# Altium footprint library libreriaPcb.PcbLib: 683 footprints (part 9 of 44)
Each footprint in its own frame and in the unit in brackets; x right, y up, seen from the top. Pads: shape width x height; smd on the part's side, far side on the other; paste and mask are expansions set on the pad; w line width, h text height; cw(c..) or ccw(c..) is an arc to the next point about the centre after c.
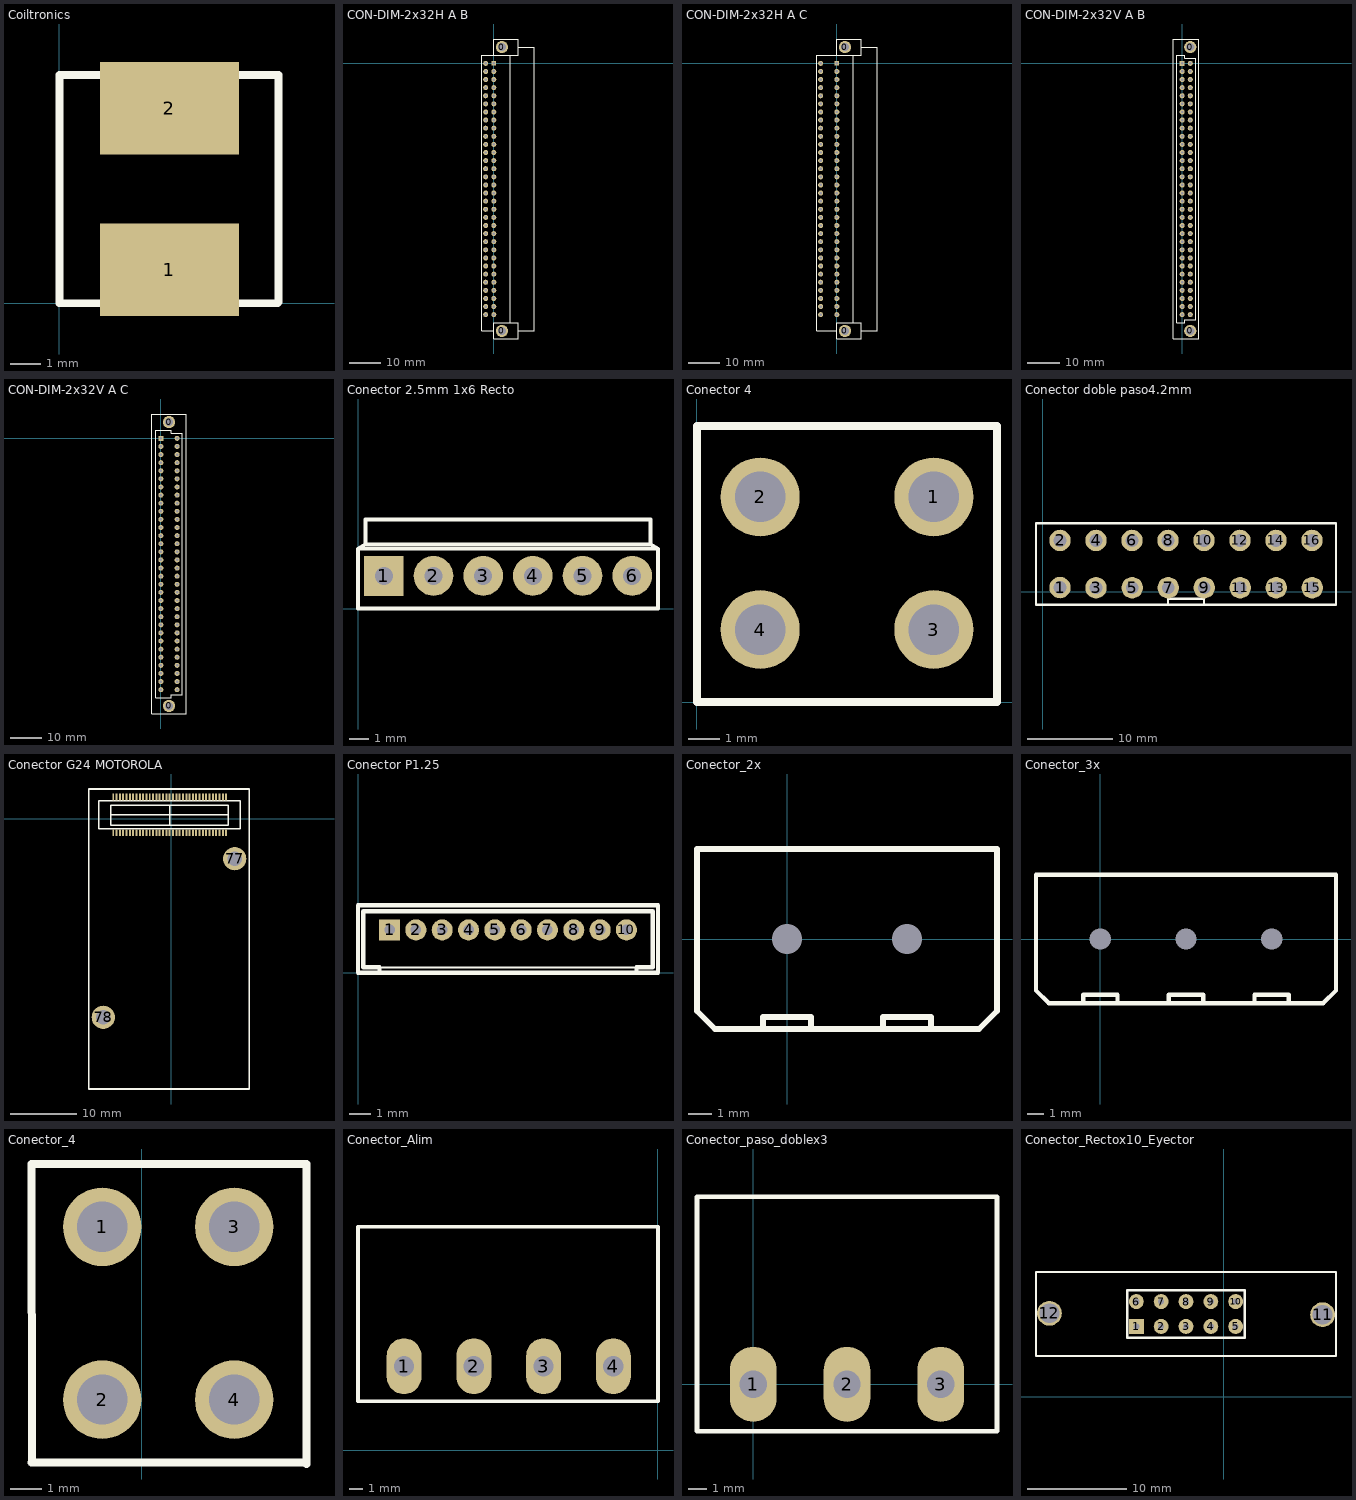
[diagram p8: the footprints below, top view; thin cyan lines are the x and y axes]

## Coiltronics [mm] "BobinaSMD"
pads (2):
  rect 4.5x3 smd: 1(3.57,1.09) 2(3.57,6.32)
Top Overlay:
  lines w0.254: 7.11,2.09 7.11,7.33 ; 7.11,2.16 7.11,0.04 7.07,0 0,0 0,4.82 0,7.4 7.11,7.4

## CON-DIM-2x32H A B [mil]
pads (66):
  round 150 hole 100: 0(100,-3300) 0(100,200)
  rect 58x58 hole 30: 1A(0,0)
  round 62 hole 30: 1B(-100,0) 2A(0,-100) 2B(-100,-100) 3A(0,-200) 3B(-100,-200) 4A(0,-300) 4B(-100,-300) 5A(0,-400) 5B(-100,-400) 6A(0,-500) 6B(-100,-500) 7A(0,-600) 7B(-100,-600) 8A(0,-700) 8B(-100,-700) 9A(0,-800) 9B(-100,-800) 10A(0,-900) 10B(-100,-900) 11A(0,-1000) 11B(-100,-1000) 12A(0,-1100) 12B(-100,-1100) 13A(0,-1200) 13B(-100,-1200) 14A(0,-1300) 14B(-100,-1300) 15A(0,-1400) 15B(-100,-1400) 16A(0,-1500) 16B(-100,-1500) 17A(0,-1600) 17B(-100,-1600) 18A(0,-1700) 18B(-100,-1700) 19A(0,-1800) 19B(-100,-1800) 20A(0,-1900) 20B(-100,-1900) 21A(0,-2000) 21B(-100,-2000) 22A(0,-2100) 22B(-100,-2100) 23A(0,-2200) 23B(-100,-2200) 24A(0,-2300) 24B(-100,-2300) 25A(0,-2400) 25B(-100,-2400) 26A(0,-2500) 26B(-100,-2500) 27A(0,-2600) 27B(-100,-2600) 28A(0,-2700) 28B(-100,-2700) 29A(0,-2800) 29B(-100,-2800) 30A(0,-2900) 30B(-100,-2900) 31A(0,-3000) 31B(-100,-3000) 32A(0,-3100) 32B(-100,-3100)
Top Overlay:
  lines w10: 0,-3300 -150,-3300 -150,100 0,100 ; 200,-3200 200,100 ; 0,100 0,300 300,300 300,200 ; 0,100 300,100 300,200 ; 300,-3300 300,-3200 0,-3200 0,-3400 300,-3400 300,-3300 ; 300,-3300 500,-3300 500,200 300,200

## CON-DIM-2x32H A C [mil]
pads (66):
  round 150 hole 100: 0(100,-3300) 0(100,200)
  rect 58x58 hole 30: 1A(0,0)
  round 62 hole 30: 1C(-200,0) 2A(0,-100) 2C(-200,-100) 3A(0,-200) 3C(-200,-200) 4A(0,-300) 4C(-200,-300) 5A(0,-400) 5C(-200,-400) 6A(0,-500) 6C(-200,-500) 7A(0,-600) 7C(-200,-600) 8A(0,-700) 8C(-200,-700) 9A(0,-800) 9C(-200,-800) 10A(0,-900) 10C(-200,-900) 11A(0,-1000) 11C(-200,-1000) 12A(0,-1100) 12C(-200,-1100) 13A(0,-1200) 13C(-200,-1200) 14A(0,-1300) 14C(-200,-1300) 15A(0,-1400) 15C(-200,-1400) 16A(0,-1500) 16C(-200,-1500) 17A(0,-1600) 17C(-200,-1600) 18A(0,-1700) 18C(-200,-1700) 19A(0,-1800) 19C(-200,-1800) 20A(0,-1900) 20C(-200,-1900) 21A(0,-2000) 21C(-200,-2000) 22A(0,-2100) 22C(-200,-2100) 23A(0,-2200) 23C(-200,-2200) 24A(0,-2300) 24C(-200,-2300) 25A(0,-2400) 25C(-200,-2400) 26A(0,-2500) 26C(-200,-2500) 27A(0,-2600) 27C(-200,-2600) 28A(0,-2700) 28C(-200,-2700) 29A(0,-2800) 29C(-200,-2800) 30A(0,-2900) 30C(-200,-2900) 31A(0,-3000) 31C(-200,-3000) 32A(0,-3100) 32C(-200,-3100)
Top Overlay:
  lines w10: 0,-3300 -250,-3300 -250,100 0,100 ; 200,-3200 200,100 ; 0,100 0,300 300,300 300,200 ; 0,100 300,100 300,200 ; 300,-3300 300,-3200 0,-3200 0,-3400 300,-3400 300,-3300 ; 300,-3300 500,-3300 500,200 300,200

## CON-DIM-2x32V A B [mil]
pads (66):
  round 150 hole 100: 0(100,-3300) 0(100,200)
  rect 62x62 hole 30: 1A(0,0)
  round 62 hole 30: 1B(100,0) 2A(0,-100) 2B(100,-100) 3A(0,-200) 3B(100,-200) 4A(0,-300) 4B(100,-300) 5A(0,-400) 5B(100,-400) 6A(0,-500) 6B(100,-500) 7A(0,-600) 7B(100,-600) 8A(0,-700) 8B(100,-700) 9A(0,-800) 9B(100,-800) 10A(0,-900) 10B(100,-900) 11A(0,-1000) 11B(100,-1000) 12A(0,-1100) 12B(100,-1100) 13A(0,-1200) 13B(100,-1200) 14A(0,-1300) 14B(100,-1300) 15A(0,-1400) 15B(100,-1400) 16A(0,-1500) 16B(100,-1500) 17A(0,-1600) 17B(100,-1600) 18A(0,-1700) 18B(100,-1700) 19A(0,-1800) 19B(100,-1800) 20A(0,-1900) 20B(100,-1900) 21A(0,-2000) 21B(100,-2000) 22A(0,-2100) 22B(100,-2100) 23A(0,-2200) 23B(100,-2200) 24A(0,-2300) 24B(100,-2300) 25A(0,-2400) 25B(100,-2400) 26A(0,-2500) 26B(100,-2500) 27A(0,-2600) 27B(100,-2600) 28A(0,-2700) 28B(100,-2700) 29A(0,-2800) 29B(100,-2800) 30A(0,-2900) 30B(100,-2900) 31A(0,-3000) 31B(100,-3000) 32A(0,-3100) 32B(100,-3100)
Top Overlay:
  lines w10: 170,64.65 170,-3165.35 35,-3165.35 35,-3200.35 -65,-3200 -65,100 35,100.35 35,65.35 170,65.35 ; -110,-3400 -110,300 204.96,299.76 204.96,134.76 204.96,-3165.24 204.96,-3400 -110,-3400

## CON-DIM-2x32V A C [mil]
pads (66):
  round 150 hole 100: 0(100,-3300) 0(100,200)
  rect 62x62 hole 30: 1A(0,0)
  round 62 hole 30: 1C(200,0) 2A(0,-100) 2C(200,-100) 3A(0,-200) 3C(200,-200) 4A(0,-300) 4C(200,-300) 5A(0,-400) 5C(200,-400) 6A(0,-500) 6C(200,-500) 7A(0,-600) 7C(200,-600) 8A(0,-700) 8C(200,-700) 9A(0,-800) 9C(200,-800) 10A(0,-900) 10C(200,-900) 11A(0,-1000) 11C(200,-1000) 12A(0,-1100) 12C(200,-1100) 13A(0,-1200) 13C(200,-1200) 14A(0,-1300) 14C(200,-1300) 15A(0,-1400) 15C(200,-1400) 16A(0,-1500) 16C(200,-1500) 17A(0,-1600) 17C(200,-1600) 18A(0,-1700) 18C(200,-1700) 19A(0,-1800) 19C(200,-1800) 20A(0,-1900) 20C(200,-1900) 21A(0,-2000) 21C(200,-2000) 22A(0,-2100) 22C(200,-2100) 23A(0,-2200) 23C(200,-2200) 24A(0,-2300) 24C(200,-2300) 25A(0,-2400) 25C(200,-2400) 26A(0,-2500) 26C(200,-2500) 27A(0,-2600) 27C(200,-2600) 28A(0,-2700) 28C(200,-2700) 29A(0,-2800) 29C(200,-2800) 30A(0,-2900) 30C(200,-2900) 31A(0,-3000) 31C(200,-3000) 32A(0,-3100) 32C(200,-3100)
Top Overlay:
  lines w10: -110,-3400 310,-3400 ; -110,-3400 -110,300 ; -110,-3400 310,-3400 ; -110,300 310,300 ; -110,300 310,300 ; 310,-3400 310,300 ; 310,-3400 310,300 ; 310,-3400 310,-3025 310,300 ; -65,-3200 -65,100 130,100 130,65 265,65 265,-3165 130,-3165 130,-3200 -65,-3200

## Conector 2.5mm 1x6 Recto [mm]
pads (6):
  rect 2x2 hole 0.9: 1(1.3,1.651)
  round 2 hole 0.9: 2(3.8,1.651) 3(6.3,1.651) 4(8.8,1.651) 5(11.3,1.651) 6(13.8,1.651)
Top Overlay:
  lines w0.2: 0,3.017 15.1,3.017 ; 0,3.017 0,0 15.1,0 15.1,3.017 ; 0,3.017 0.381,3.24 ; 0.381,3.24 14.719,3.24 ; 0.381,3.24 0.381,4.5 14.719,4.5 14.719,3.24 ; 14.719,3.24 15.1,3.017

## Conector 4 [mm]
pads (4):
  round 2.5 hole 1.6: 1(7.508,6.508) 2(2.008,6.508) 3(7.508,2.308) 4(2.008,2.308)
Top Overlay:
  lines w0.254: 0.008,0.008 7.508,0.008 9.508,0.008 9.508,8.758 0.008,8.758 0.008,0.008
3D body: height 1, standoff 0, extent 0,0 9.474,8.763
3D body: height 12, standoff 1, extent 0,0 1.016,8.738
3D body: height 12, standoff 1, extent 0,0 9.525,1.016
3D body: height 12, standoff 1, extent 8.509,0 9.525,8.712
3D body: height 12, standoff 1, extent 0.025,7.696 9.525,8.712
3D body: height 12, standoff 1, extent 4.597,0 5.131,8.738
3D body: height 12, standoff 1, extent 0,4.166 9.5,4.648
3D body: height 12, standoff 9, extent -0.851,3.099 0,5.741

## Conector doble paso4.2mm [mm]
pads (16):
  round 2.5 hole 1.5: 1(2,0.5) 2(2,6) 3(6.2,0.476) 4(6.2,6) 5(10.424,0.484) 6(10.4,6) 7(14.624,0.476) 8(14.6,6) 9(18.824,0.484) 10(18.8,6) 11(23.024,0.484) 12(23,6) 13(27.224,0.484) 14(27.2,6) 15(31.424,0.476) 16(31.4,6)
Top Overlay:
  lines w0.254: 14.6,-1.5 14.6,-0.8 18.8,-0.8 18.8,-1.5 ; -0.8,-1.5 -0.8,8 34.2,8 34.2,6 34.2,-1.5 -0.8,-1.5

## Conector G24 MOTOROLA [mm]
pads (72):
  rect 0.3x1 smd: 1(8.25,3.25) 2(8.25,-2.15) 3(7.75,3.25) 4(7.75,-2.15) 5(7.25,3.25) 6(7.25,-2.15) 7(6.75,3.25) 8(6.75,-2.15) 9(6.25,3.25) 10(6.25,-2.15) 11(5.75,3.25) 12(5.75,-2.15) 13(5.25,3.25) 14(5.25,-2.15) 15(4.75,3.25) 16(4.75,-2.15) 17(4.25,3.25) 18(4.25,-2.15) 19(3.75,3.25) 20(3.75,-2.15) 21(3.25,3.25) 22(3.25,-2.15) 23(2.75,3.25) 24(2.75,-2.15) 25(2.25,3.25) 26(2.25,-2.15) 27(1.75,3.25) 28(1.75,-2.15) 29(1.25,3.25) 30(1.25,-2.15) 31(0.75,3.25) 32(0.75,-2.15) 33(0.25,3.25) 34(0.25,-2.15) 35(-0.25,3.25) 36(-0.25,-2.15) 37(-0.75,3.25) 38(-0.75,-2.15) 39(-1.25,3.25) 40(-1.25,-2.15) 41(-1.75,3.25) 42(-1.75,-2.15) 43(-2.25,3.25) 44(-2.25,-2.15) 45(-2.75,3.25) 46(-2.75,-2.15) 47(-3.25,3.25) 48(-3.25,-2.15) 49(-3.75,3.25) 50(-3.75,-2.15) 51(-4.25,3.25) 52(-4.25,-2.15) 53(-4.75,3.25) 54(-4.75,-2.15) 55(-5.25,3.25) 56(-5.25,-2.15) 57(-5.75,3.25) 58(-5.75,-2.15) 59(-6.25,3.25) 60(-6.25,-2.15) 61(-6.75,3.25) 62(-6.75,-2.15) 63(-7.25,3.25) 64(-7.25,-2.15) 65(-7.75,3.25) 66(-7.75,-2.15) 67(-8.25,3.25) 68(-8.25,-2.15) 69(-8.75,3.25) 70(-8.75,-2.15)
  round 3.5 hole 2.2: 77(9.55,-6.05) 78(-10.25,-29.95)
Top Overlay:
  lines w0.2: -9.1,0.55 8.6,0.55 ; -0.25,-1 -0.25,2 ; -10.9,-1.55 -10.9,2.65 -9.1,2.65 8.6,2.65 10.4,2.65 10.4,-1.55 8.6,-1.55 -9.1,-1.55 -10.9,-1.55 ; -9.1,-1 8.6,-1 8.6,2 -9.1,2 -9.1,0 -9.1,-1
  lines w0.254: -10.25,-29.95 -10.2,-30 ; -12.45,-40.75 11.75,-40.75 11.75,4.45 -2.05,4.45 -10.25,4.45 -12.45,4.45 -12.45,-6.05 -12.45,-40.75
3D body: height 2, standoff 1.6, extent -12.449,-40.749 11.749,4.449

## Conector P1.25 [mm] "1.25 Wire to Board Conn. Recto"
pads (10):
  rect 1x1 hole 0.5: 1(1.5,2.032)
  round 1 hole 0.5: 2(2.75,2.032) 3(4,2.032) 4(5.25,2.032) 5(6.5,2.032) 6(7.75,2.032) 7(9,2.032) 8(10.25,2.032) 9(11.5,2.032) 10(12.75,2.032)
Top Overlay:
  lines w0.1: 1.016,0.254 13.234,0.254
  lines w0.2: 1.016,0 1.016,0.254 0.254,0.254 0.254,2.921 13.996,2.921 13.996,0.254 13.234,0.254 13.234,0 ; 0,0 0,3.2 14.25,3.2 14.25,0 0,0

## Conector_2x [mm]
pads (2):
  oct 0x0 / inner round 0 / far side oct 2.54x2.54 hole 1.27: 1(0,0)
  round 0 / inner round 0 / far side round 2.54 hole 1.27: 2(5.08,0)
Top Overlay:
  lines w0.254: -1.016,-3.81 -1.016,-3.302 1.016,-3.302 1.016,-3.81 ; 4.064,-3.81 4.064,-3.302 6.096,-3.302 6.096,-3.81 ; -3.81,-3.048 -3.81,3.81 8.89,3.81 8.89,-3.048 8.128,-3.81 -3.048,-3.81 -3.81,-3.048

## Conector_3x [mm]
pads (3):
  oct 0x0 / inner round 0 / far side oct 2.794x2.794 hole 1.27: 1(0,0)
  round 0 / inner round 0 / far side round 2.794 hole 1.27: 2(10.16,0) C(5.08,0)
Top Overlay:
  lines w0.254: -1.016,-3.81 -1.016,-3.302 1.016,-3.302 1.016,-3.81 ; 4.064,-3.81 4.064,-3.302 6.096,-3.302 6.096,-3.81 ; 9.144,-3.81 9.144,-3.302 11.176,-3.302 11.176,-3.81 ; -3.81,-3.048 -3.048,-3.81 13.208,-3.81 13.97,-3.048 13.97,3.81 -3.81,3.81 -3.81,-3.048

## Conector_4 [mm]
pads (4):
  round 2.5 hole 1.6: 1(-1.25,17.03) 2(-1.25,11.53) 3(2.95,17.03) 4(2.95,11.53)
Top Overlay:
  lines w0.254: -3.5,9.53 5.2,9.53 5.25,9.48 ; -3.49,9.52 -3.5,19.03 5.25,19.03 5.25,17.03 5.25,9.52

## Conector_Alim [mm]
pads (4):
  oval 2.5x4 hole 1.45: 1(-18.2,6) 2(-13.2,6) 3(-8.2,6) 4(-3.2,6)
Top Overlay:
  lines w0.254: -21.5,3.5 -21.5,16 0,16 0,3.5 -6.2,3.5 -18.2,3.5 -21.5,3.5

## Conector_paso_doblex3 [mm]
pads (3):
  oval 2.5x4 hole 1.45: 1(0,0) 2(5,0) 3(10,0)
Top Overlay:
  lines w0.254: -3,-2.5 0,-2.5 12,-2.5 13,-2.5 13,0 13,10 -3,10 -3,-2.5

## Conector_Rectox10_Eyector [mm]
pads (12):
  rect 1.5x1.5 hole 0.6: 1(-8.8,7.1)
  round 1.5 hole 0.6: 2(-6.3,7.1) 3(-3.8,7.1) 4(-1.3,7.1) 5(1.2,7.1) 6(-8.8,9.6) 7(-6.3,9.6) 8(-3.8,9.6) 9(-1.3,9.6) 10(1.2,9.6)
  round 2.5 hole 2: 11(9.95,8.28) 12(-17.55,8.42)
Top Overlay:
  lines w0.2: -18.9,4.1 11.3,4.1 11.3,12.6 -18.9,12.6 -18.9,4.1
  lines w0.254: -9.73,5.97 2.13,5.97 2.13,10.73 -9.73,10.73 -9.73,5.97